# EAGLE library part AXE510127 (library Connector_Panasonic)
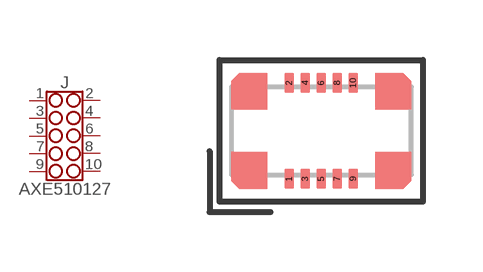
[diagram p0: symbol with the pads of AXE510127; footprint AXE510127]

Designator prefix J

## AXE510127  [AXE510127]
1  1  pas
2  2  pas
3  3  pas
4  4  pas
5  5  pas
6  6  pas
7  7  pas
8  8  pas
9  9  pas
10  10  pas

## Footprint AXE510127 (pad centres in mm)
smd 0.23 x 0.5: 1 -0.8,-1.2; 2 -0.8,1.2; 3 -0.4,-1.2; 4 -0.4,1.2; 5 0,-1.2; 6 0,1.2; 7 0.4,-1.2; 8 0.4,1.2; 9 0.8,-1.2; 10 0.8,1.2